# Altium footprint library PCB_Library_TM.PcbLib: 22 footprints (part 2 of 2)
Each footprint in its own frame and in the unit in brackets; x right, y up, seen from the top. Pads: shape width x height; smd on the part's side, far side on the other; paste and mask are expansions set on the pad; w line width, h text height; cw(c..) or ccw(c..) is an arc to the next point about the centre after c.
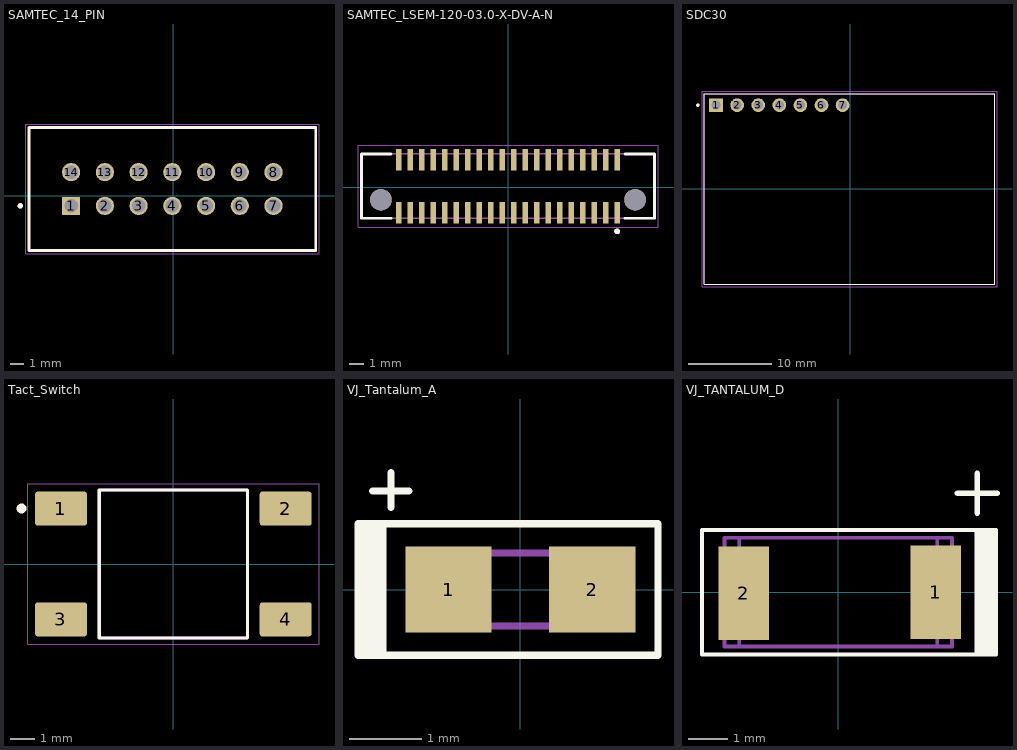
[diagram p1: the footprints below, top view; thin cyan lines are the x and y axes]

## SAMTEC_14_PIN [mm]
pads (14):
  rect 1.37x1.37 hole 1.02: 1(-7.69,-0.75)
  round 1.37 hole 1.02: 2(-5.15,-0.75) 3(-2.61,-0.75) 4(-0.07,-0.75) 5(2.47,-0.75) 6(5.01,-0.75) 7(7.55,-0.75) 8(7.55,1.79) 9(5.01,1.79) 10(2.47,1.79) 11(-0.07,1.79) 12(-2.61,1.79) 13(-5.15,1.79) 14(-7.69,1.79)
Top Overlay:
  circle w0.2: c-11.515,-0.75 r0.1
  lines w0.2: -10.865,-4.115 10.725,-4.115 10.725,5.155 -10.865,5.155 -10.865,-4.115
Mechanical 13:
  circle w0.2: c-11.515,-0.75 r0.1
  lines w0.1: -10.865,-4.115 -10.865,5.155 ; -10.865,-4.115 10.725,-4.115 ; -10.865,-4.115 -10.865,5.155 ; -10.865,5.155 10.725,5.155 ; -10.865,5.155 10.725,5.155 ; 10.725,-4.115 10.725,5.155 ; 10.725,-4.115 10.725,5.155
Mechanical 15:
  lines w0.05: -11.115,-4.365 10.975,-4.365 10.975,5.405 -11.115,5.405 -11.115,-4.365
3D body "PPPC072LFBNRC--3DModel-STEP-269445.STEP": height 8.51, standoff -3.2, extent -9.246,-1.981 9.042,3.099

## SAMTEC_LSEM-120-03.0-X-DV-A-N [mm]
pads (42):
  rect 0.38x1.5 smd: 01(7.6,-1.789) 02(7.6,1.911) 03(6.8,-1.789) 04(6.8,1.911) 05(6,-1.789) 06(6,1.911) 07(5.2,-1.789) 08(5.2,1.911) 09(4.4,-1.789) 10(4.4,1.911) 11(3.6,-1.789) 12(3.6,1.911) 13(2.8,-1.789) 14(2.8,1.911) 15(2,-1.789) 16(2,1.911) 17(1.2,-1.789) 18(1.2,1.911) 19(0.4,-1.789) 20(0.4,1.911) 21(-0.4,-1.789) 22(-0.4,1.911) 23(-1.2,-1.789) 24(-1.2,1.911) 25(-2,-1.789) 26(-2,1.911) 27(-2.8,-1.789) 28(-2.8,1.911) 29(-3.6,-1.789) 30(-3.6,1.911) 31(-4.4,-1.789) 32(-4.4,1.911) 33(-5.2,-1.789) 34(-5.2,1.911) 35(-6,-1.789) 36(-6,1.911) 37(-6.8,-1.789) 38(-6.8,1.911) 39(-7.6,-1.789) 40(-7.6,1.911)
  round 1.5 hole 1.5 unplated: ""(-8.85,-0.889) ""(8.85,-0.889)
Top Overlay:
  circle w0.2: c7.6,-3.089 r0.1
  lines w0.2: -8.14,-2.179 -10.2,-2.179 -10.2,2.301 -8.14,2.301 ; 8.14,-2.179 10.2,-2.179 10.2,2.301 8.14,2.301
Mechanical 13:
  circle w0.2: c7.6,-3.089 r0.1
  lines w0.1: -10.2,-2.179 -10.2,2.301 10.2,2.301 10.2,-2.179 -10.2,-2.179
Mechanical 15:
  lines w0.05: -10.45,-2.789 -10.45,2.911 10.45,2.911 10.45,-2.789 -10.45,-2.789
3D body "LSEM-120-03.0-L-DV-A-N-K-TR.stp": height 0.8, standoff -4.63, extent -10.25,-2.696 10.25,2.798

## SDC30 [mm] "CO2 Sensor"
pads (7):
  rect 1.65x1.65 hole 1.1: 1(-16.151,10.075)
  round 1.65 hole 1.1: 2(-13.611,10.075) 3(-11.071,10.075) 4(-8.531,10.075) 5(-5.991,10.075) 6(-3.451,10.075) 7(-0.911,10.075)
Top Overlay:
  circle w0.2: c-18.351,10.075 r0.1
  lines w0.127: -17.551,-11.525 17.449,-11.525 17.449,11.475 -17.551,11.475 -17.551,-11.525
Mechanical 13:
  circle w0.2: c-18.351,10.075 r0.1
  lines w0.127: -17.551,-11.525 -17.551,11.475 17.449,11.475 17.449,-11.525 -17.551,-11.525
Mechanical 15:
  lines w0.05: -17.801,-11.775 -17.801,11.725 17.699,11.725 17.699,-11.775 -17.801,-11.775
3D body "SCD30.STEP": height 5.45, standoff -1.55, extent -17.551,-11.519 17.449,11.481

## Tact_Switch [mm]
pads (4):
  rrect15% 2.1x1.38 smd: 1(-4.55,2.24) 2(4.55,2.24) 3(-4.55,-2.24) 4(4.55,-2.24)
Top Overlay:
  circle w0.2: c-6.151,2.249 r0.1
  lines w0.127: -3,-3 -3,3 3,3 3,-3 -3,-3
Mechanical 13:
  lines w0.127: -3,-3 3,-3 3,3 -3,3 -3,-3
Mechanical 15:
  lines w0.05: -5.9,-3.25 5.9,-3.25 5.9,3.25 -5.9,3.25 -5.9,-3.25
3D body "step_temp.STEP": height 5.07, standoff 0, extent -5,-3 5,3

## VJ_Tantalum_A [mm]
pads (2):
  rect 1.2x1.2 smd: 1(-1,0) 2(1,0)
Top Overlay:
  rectangle: -2.261,-0.914 -1.915,0.915
  lines w0.1: -2.057,1.372 -1.549,1.372 ; -1.803,1.143 -1.803,1.626 ; -1.915,-0.914 -2.261,-0.914 -2.261,0.915 -1.915,0.915 ; -1.915,-0.914 -1.915,0.915 ; -1.915,-0.915 -1.915,0 -1.915,0.915 ; -1.915,-0.915 1.915,-0.915 1.915,0.915 -1.915,0.915
Mechanical 1:
  lines w0.1: -0.635,-0.508 0.635,-0.508 0.635,0.508 -0.635,0.508 -0.635,-0.508
Mechanical 13:
  lines w0.1: -1.524,-0.508 -0.635,-0.508 -0.635,0.508 -1.524,0.508 -1.524,-0.508 ; 0.635,-0.508 1.524,-0.508 1.524,0.508 0.635,0.508 0.635,-0.508
3D body: height 1.6, standoff 0, extent -0.634,-0.507 0.634,0.507
3D body: height 1.6, standoff 0, extent -0.685,-0.558 0.685,0.558
3D body: height 1.6, standoff 0, extent -1.523,-0.507 -0.636,0.507
3D body: height 1.6, standoff 0, extent 0.636,-0.507 1.523,0.507

## VJ_TANTALUM_D [mm]
pads (2):
  rect 1.3x2.4 smd: 1(2.5,0) 2(-2.424,-0.025)
Top Overlay:
  rectangle: 3.55,-1.6 4.047,1.6
  lines w0.1: 3.55,-1.6 ccw(c3.55,-1.6) 3.55,-1.6 ; 3.55,-1.6 4.047,-1.6 4.047,1.6 3.55,1.6 ; 3.55,-1.6 3.55,1.6 ; 3.55,-1.6 3.55,1.6 ; 3.55,-1.6 3.55,1.6 ; 3.55,-1.6 -3.5,-1.6 -3.5,0 -3.5,1.6 3.55,1.6 ; 3.55,-1.6 3.55,1.6
  lines w0.15: 3.056,2.54 4.072,2.54 ; 3.564,2.032 3.564,3.048
Mechanical 1:
  lines w0.1: -2.54,-1.397 -2.921,-1.397 -2.921,1.397 -2.54,1.397 ; -2.54,-1.397 2.54,-1.397 ; -2.54,-1.397 -2.54,1.397 ; -2.54,1.397 2.54,1.397 ; 2.54,-1.397 2.921,-1.397 2.921,1.397 2.54,1.397 ; 2.54,-1.397 2.54,1.397
3D body: height 1.6, standoff 0, extent 2.541,-1.396 2.92,1.396
3D body: height 1.6, standoff 0, extent -2.539,-1.396 2.539,1.396
3D body: height 1.6, standoff 0, extent -2.92,-1.396 -2.541,1.396